# Altium schematic symbol library 112A-TAAR-R03_ATTEND.SchLib: 1 symbol
Pins are listed as number, name and electrical type; pins without a type are passive.

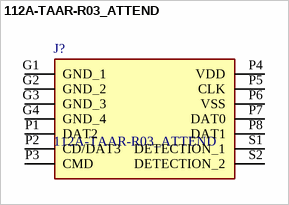
[diagram p0: symbol 112A-TAAR-R03_ATTEND]

## 112A-TAAR-R03_ATTEND
designator J?
Micro SD Card Socket, Push-Push Type, Top Mount, SMT, H=1.83mm, 10u; Manufacturer_Name: ATTEND; Manufacturer_Part_Number: 112A-TAAR-R03 ATTEND; Geometry.Height: 1.9mm; Mouser Part Number: *; Mouser Price/Stock: *; Arrow Part Number: *; Arrow Price/Stock: *; Datasheet Link: https://www.attend.com.tw/data/download/file/112A-TAAR-R03.pdf
footprint 112ATAARR03ATTEND
pins: G1 GND_1, G2 GND_2, G3 GND_3, G4 GND_4, P1 DAT2, P2 CD/DAT3, P3 CMD, P4 VDD, P5 CLK, P6 VSS, P7 DAT0, P8 DAT1, S1 DETECTION_1, S2 DETECTION_2